# Altium footprint library CUI_PJ-037AH.PcbLib: 1 footprints
Each footprint in its own frame and in the unit in brackets; x right, y up, seen from the top. Pads: shape width x height; smd on the part's side, far side on the other; paste and mask are expansions set on the pad; w line width, h text height; cw(c..) or ccw(c..) is an arc to the next point about the centre after c.
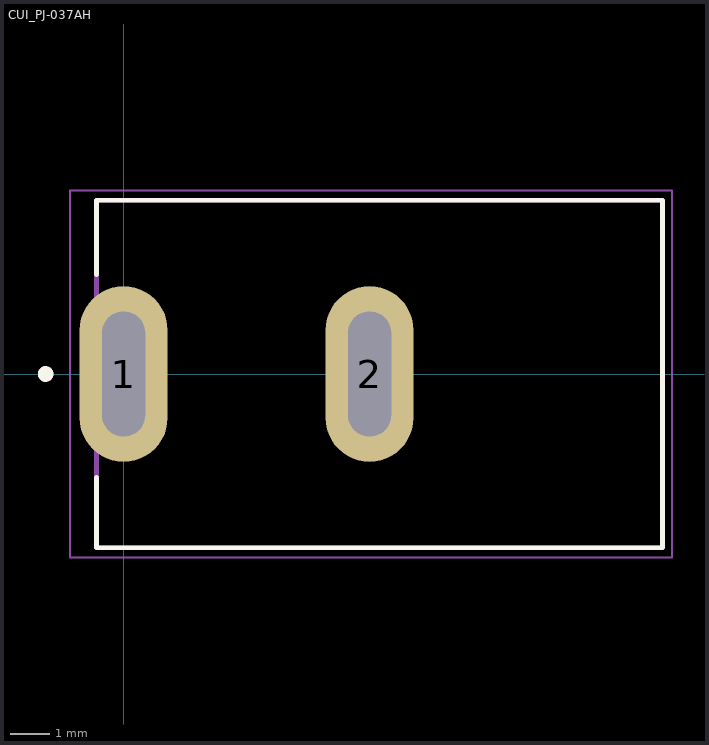
[diagram p0: the footprint, top view; thin cyan lines are the x and y axes]

## CUI_PJ-037AH [mm]
height 10.9
pads (2):
  oval 2.25x4.5 hole 1.1 slot 3.2 at 90 deg: 1(0,0) 2(6.3,0)
Top Overlay:
  circle w0.2: c-2,0 r0.1
  lines w0.127: -0.7,-2.65 -0.7,-4.45 13.8,-4.45 13.8,4.45 -0.7,4.45 -0.7,2.55
Mechanical 13:
  circle w0.2: c-2,0 r0.1
  lines w0.127: -0.7,-4.45 -0.7,4.45 13.8,4.45 13.8,-4.45 -0.7,-4.45
Mechanical 15:
  lines w0.05: -1.375,-4.7 -1.375,4.7 14.05,4.7 14.05,-4.7 -1.375,-4.7
3D body "step_temp.STEP": height 11, standoff -3.5, extent -0.8,-4.5 13.7,4.5